# Altium integrated library KTR18EZPF3300.IntLib: 1 symbol
Pins are listed as number, name and electrical type; pins without a type are passive.

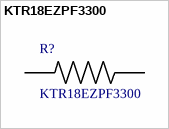
[diagram p0: symbol KTR18EZPF3300]

## KTR18EZPF3300
designator R?
MF: Rohm; SnapEDA_Link: https://www.snapeda.com/parts/KTR18EZPF3300/Rohm/view-part/?ref=snap; Availability: Unavailable; Price: None; MP: KTR18EZPF3300; Package: 3216 Rohm Semiconductor; Value: *
footprint *RESC3216X65N
pins: 1, 2